# Altium footprint library stabilizator_napiecia.PcbLib: 1 footprints
Each footprint in its own frame and in the unit in brackets; x right, y up, seen from the top. Pads: shape width x height; smd on the part's side, far side on the other; paste and mask are expansions set on the pad; w line width, h text height; cw(c..) or ccw(c..) is an arc to the next point about the centre after c.
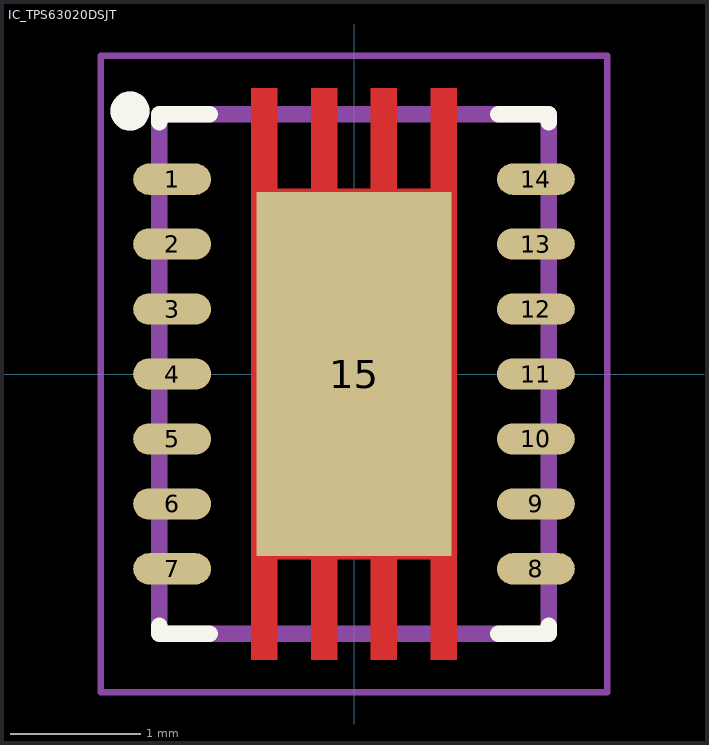
[diagram p0: the footprint, top view; thin cyan lines are the x and y axes]

## IC_TPS63020DSJT [mm]
pads (15):
  oval 0.6x0.24 smd mask+0: 1(-1.4,1.5) 2(-1.4,1) 3(-1.4,0.5) 4(-1.4,0) 5(-1.4,-0.5) 6(-1.4,-1) 7(-1.4,-1.5) 8(1.4,-1.5) 9(1.4,-1) 10(1.4,-0.5) 11(1.4,0) 12(1.4,0.5) 13(1.4,1) 14(1.4,1.5)
  rect 1.5x2.8 smd paste-2 mask+0: 15(0,0)
Top Layer:
  region: 0.79,-2.2 0.59,-2.2 0.59,-1.425 0.33,-1.425 0.33,-2.2 0.13,-2.2 0.13,-1.425 -0.13,-1.425 -0.13,-2.2 -0.33,-2.2 -0.33,-1.425 -0.59,-1.425 -0.59,-2.2 -0.79,-2.2 -0.79,2.2 -0.59,2.2 -0.59,1.425 -0.33,1.425 -0.33,2.2 -0.13,2.2 -0.13,1.425 0.13,1.425 0.13,2.2 0.33,2.2 0.33,1.425 0.59,1.425 0.59,2.2 0.79,2.2
Top Overlay:
  circle w0.2: c-1.725,2.025 r0.05
  lines w0.127: -1.5,-1.94 -1.5,-2 -1.11,-2 ; -1.5,1.94 -1.5,2 -1.11,2 ; 1.11,-2 1.5,-2 1.5,-1.94 ; 1.11,2 1.5,2 1.5,1.94
Top Paste:
  region: -0.13,-2.2 -0.33,-2.2 -0.33,-1.35 -0.59,-1.35 -0.59,-2.2 -0.79,-2.2 -0.79,-0.1 -0.13,-0.1
  region: 0.79,-2.2 0.59,-2.2 0.59,-1.35 0.33,-1.35 0.33,-2.2 0.13,-2.2 0.13,-0.1 0.79,-0.1
  region: 0.79,0.1 0.13,0.1 0.13,2.2 0.33,2.2 0.33,1.35 0.59,1.35 0.59,2.2 0.79,2.2
  region: -0.13,0.1 -0.79,0.1 -0.79,2.2 -0.59,2.2 -0.59,1.35 -0.33,1.35 -0.33,2.2 -0.13,2.2
Top Solder:
  drawing of 15 lines, arcs and shapes, not listed
Mechanical 13:
  circle w0.2: c-1.725,2.025 r0.05
  lines w0.127: -1.5,-2 -1.5,2 1.5,2 1.5,-2 -1.5,-2
Mechanical 15:
  lines w0.05: -1.95,-2.45 -1.95,2.45 1.95,2.45 1.95,-2.45 -1.95,-2.45